# Altium footprint library PCB_Switch.PcbLib: 30 footprints (part 2 of 2)
Each footprint in its own frame and in the unit in brackets; x right, y up, seen from the top. Pads: shape width x height; smd on the part's side, far side on the other; paste and mask are expansions set on the pad; w line width, h text height; cw(c..) or ccw(c..) is an arc to the next point about the centre after c.
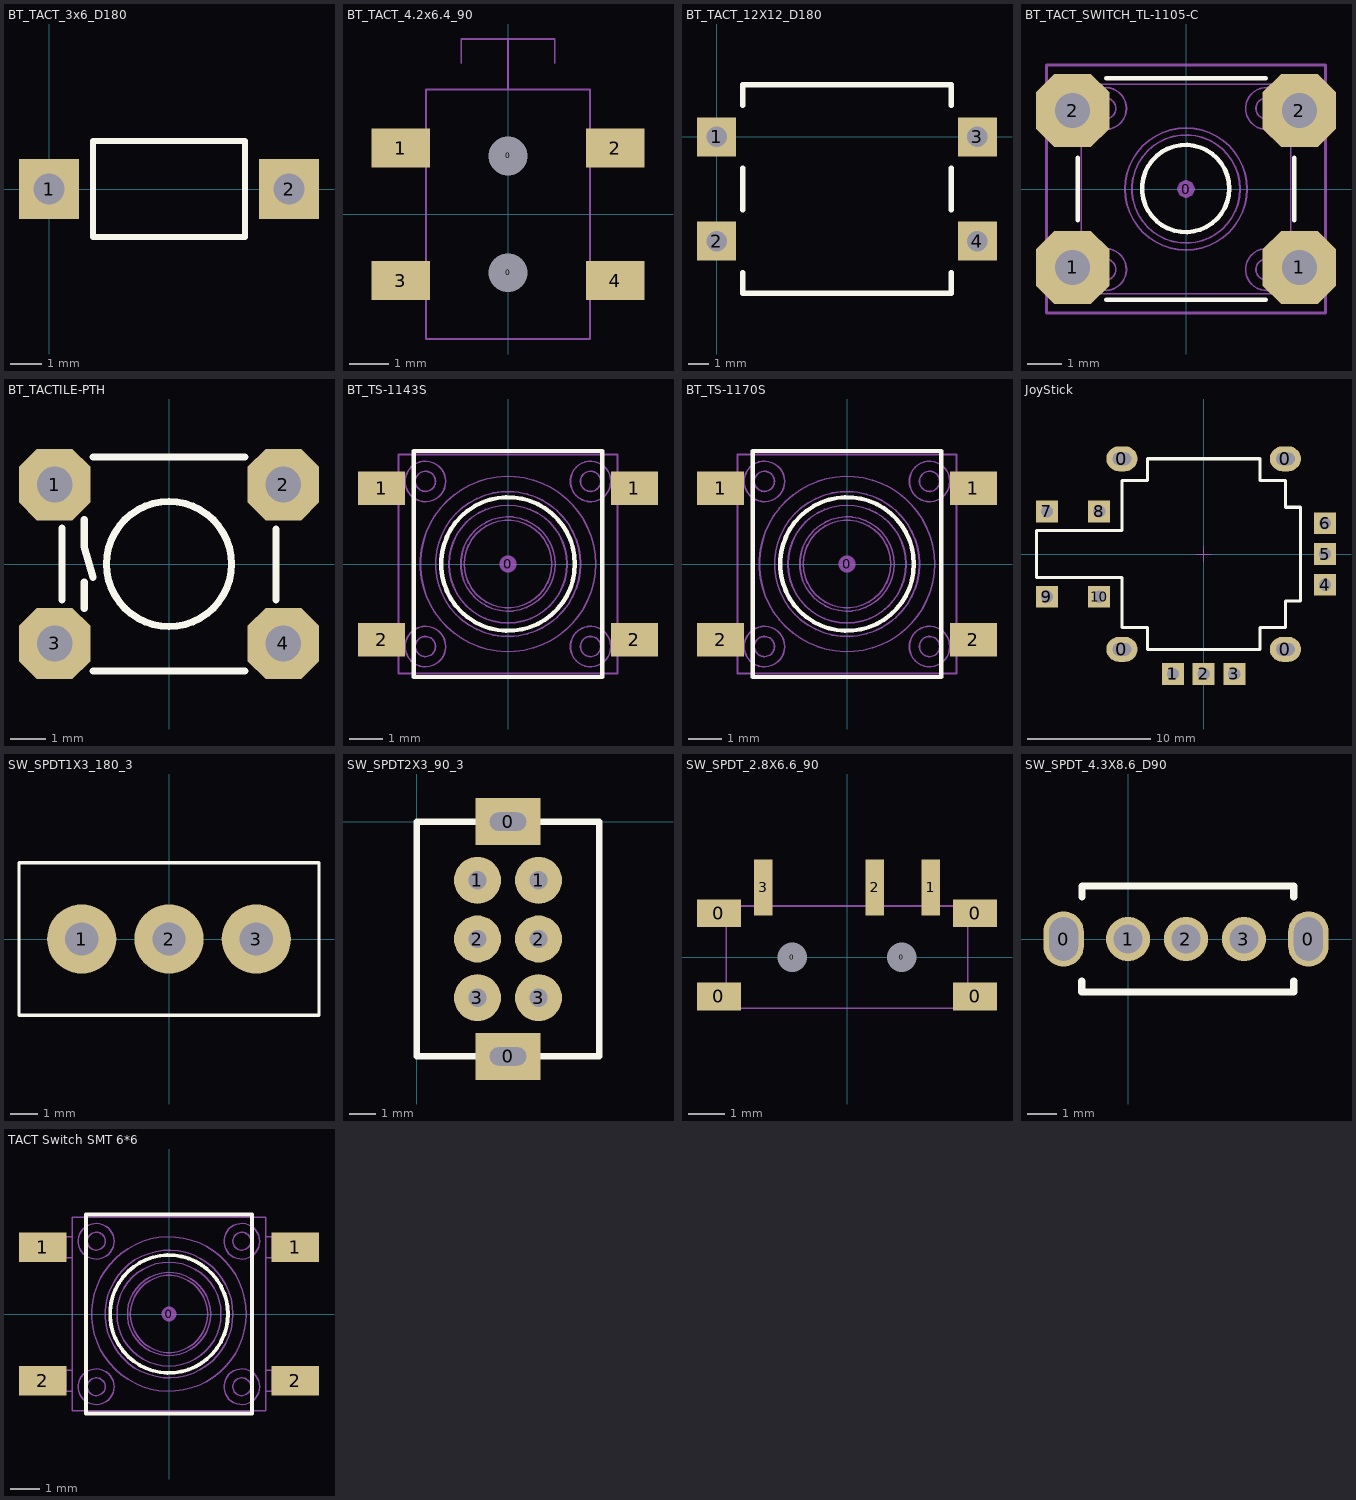
[diagram p1: the footprints below, top view; thin cyan lines are the x and y axes]

## BT_TACT_3x6_D180 [mm]
pads (2):
  rect 1.905x1.905 hole 1: 1(0,0) 2(7.62,0)
Top Overlay:
  lines w0.2: 1.397,-1.524 6.223,-1.524 6.223,1.524 1.397,1.524 1.397,-1.524
3D body: height 5.13, standoff 0.13, extent 0.21,-1.75 7.41,1.75

## BT_TACT_4.2x6.4_90 [mm]
pads (6):
  round 0.254 hole 1: 0(0,-1.5) 0(0,1.5)
  rect 1.5x1 smd: 1(-2.75,1.7) 2(2.75,1.7) 3(-2.75,-1.7) 4(2.75,-1.7)
Mechanical 13:
  lines w0.051: -1.2,3.88 -1.2,4.5 1.2,4.5 1.2,3.88 ; 0,3.2 0,4.5 ; -2.1,-3.2 -2.1,3.2 2.1,3.2 2.1,-3.2 -2.1,-3.2
3D body: height 2.12, standoff -0.48, extent -3.25,-2.977 3.25,5.273

## BT_TACT_12X12_D180 [mm]
height 5
pads (4):
  rect 1.905x1.905 hole 1: 1(0,0) 2(0,-5.08) 3(12.7,0) 4(12.7,-5.08)
Top Overlay:
  lines w0.254: 1.27,-6.604 1.27,-7.62 11.43,-7.62 11.43,-6.604 ; 1.27,-3.556 1.27,-1.524 ; 1.27,1.524 1.27,2.54 11.43,2.54 11.43,1.524 ; 11.43,-3.556 11.43,-1.524
3D body: height 7.43, standoff -3.37, extent -0.127,-8.54 12.873,3.46

## BT_TACT_SWITCH_TL-1105-C [mm] "E-Switch TL1105 series tact switch 8.0mm stem height"
height 8
pads (5):
  round 0.508 on Mech14: 0(0,0)
  oct 2.1x2.1 hole 1: 1(-3.25,-2.25) 1(3.25,-2.25) 2(-3.25,2.25) 2(3.25,2.25)
Top Overlay:
  circle w0.127: c-0.011,0.014 r1.25
  lines w0.127: -3.1,-0.9 -3.1,0.9 ; -2.286,-3.175 2.286,-3.175 ; -2.286,3.175 2.286,3.175 ; 3.1,-0.9 3.1,0.9
Mechanical 13:
  circle w0.05: c0,0 r1.55
  circle w0.05: c0,0 r1.75
  circle w0.05: c-2.31,2.309 r0.3
  circle w0.05: c2.307,2.309 r0.3
  circle w0.05: c-2.31,-2.308 r0.3
  circle w0.05: c2.307,-2.308 r0.3
  circle w0.05: c2.309,2.309 r0.6
  circle w0.05: c-2.309,2.309 r0.6
  circle w0.05: c2.309,-2.309 r0.6
  circle w0.05: c-2.309,-2.309 r0.6
  lines w0.05: -3.886,-2.65 -3.886,-1.85 ; -3.886,1.85 -3.886,2.65 ; -3.3,-2.65 -3.3,-1.85 ; -3.3,1.85 -3.3,2.65 ; -3.15,-2.65 -3.15,-1.85 ; -3.15,1.85 -3.15,2.65 ; -3,-2.65 -3.95,-2.65 -3.95,-1.85 -3,-1.85 ; -3,1.85 -3.95,1.85 -3.95,2.65 -3,2.65 ; -2.561,-2.853 ccw(c-2.309,-2.309) -2.538,-2.863 ; -2.561,1.764 ccw(c-2.309,2.309) -2.538,1.754 ; 2.056,-2.853 ccw(c2.309,-2.309) 2.079,-2.863 ; 2.056,1.764 ccw(c2.309,2.309) 2.079,1.754 ; 3,-2.65 3.95,-2.65 3.95,-1.85 3,-1.85 ; 3,1.85 3.95,1.85 3.95,2.65 3,2.65 ; 3.15,-2.65 3.15,-1.85 ; 3.15,1.85 3.15,2.65 ; 3.3,-2.65 3.3,-1.85 ; 3.3,1.85 3.3,2.65 ; 3.886,-2.65 3.886,-1.85 ; 3.886,1.85 3.886,2.65 ; -3,-3 -3,3 3,3 3,-3 -3,-3
Mechanical 14:
  lines w0.076: -4,-3.556 -4,3.556 4,3.556 4,-3.556 -4,-3.556
3D body: height 8, standoff -3.5, extent -3.95,-3 3.95,3

## BT_TACTILE-PTH [mil] "ֱ"
pads (4):
  oct 80x80 hole 40: 1(-128,89) 2(128,89) 3(-128,-89) 4(128,-89)
Top Overlay:
  circle w8: c0,0 r70
  lines w8: -120,-40 -120,40.47 ; -95,-50 -95,-20 ; -95,50 -95,20 -85,-15 ; -85,-120 85,-120 ; -85,120 85,120 ; 120,-40 120,39.29
3D body: height 212.6, standoff -118.11, extent -161.65,-118.11 161.64,118.11

## BT_TS-1143S [mm] "6.5x6.5mm SMD tact switch 4.3mm stem"
height 4.3
pads (5):
  round 0.508 on Mech14: 0(0,0)
  rect 1.4x1 smd: 1(-3.75,2.25) 1(3.75,2.25) 2(-3.75,-2.25) 2(3.75,-2.25)
Top Overlay:
  circle w0.127: c0,0 r1.984
  lines w0.127: -2.794,-3.35 2.794,-3.35 2.794,3.35 -2.794,3.35 -2.794,-3.35
Mechanical 13:
  circle w0.05: c-2.45,-2.45 r0.6
  circle w0.05: c2.45,-2.45 r0.6
  circle w0.05: c2.45,2.45 r0.6
  circle w0.05: c-2.45,2.45 r0.6
  circle w0.05: c-2.45,-2.448 r0.3
  circle w0.05: c2.45,-2.448 r0.3
  circle w0.05: c-2.45,2.452 r0.3
  circle w0.05: c2.45,2.452 r0.3
  circle w0.05: c0,0 r2.6
  circle w0.05: c0,0 r2.15
  circle w0.05: c0,-0.002 r1.75
  circle w0.05: c0,0 r1.3
  circle w0.05: c0,0 r1.4
  lines w0.05: -3.591,-2.6 -3.591,-1.9 ; -3.591,1.9 -3.591,2.6 ; -3.571,-2.6 -3.571,-1.9 ; -3.571,1.9 -3.571,2.6 ; -3.468,-2.6 -3.468,-1.9 ; -3.468,1.9 -3.468,2.6 ; -3.253,-2.6 -3.253,-1.9 ; -3.253,1.9 -3.253,2.6 ; -3.25,-2.6 -4,-2.6 -4,-1.9 -3.25,-1.9 ; -3.25,1.9 -4,1.9 -4,2.6 -3.25,2.6 ; 3.25,-2.6 4,-2.6 4,-1.9 3.25,-1.9 ; 3.25,1.9 4,1.9 4,2.6 3.25,2.6 ; 3.253,-2.6 3.253,-1.9 ; 3.253,1.9 3.253,2.6 ; 3.468,-2.6 3.468,-1.9 ; 3.468,1.9 3.468,2.6 ; 3.571,-2.6 3.571,-1.9 ; 3.571,1.9 3.571,2.6 ; 3.591,-2.6 3.591,-1.9 ; 3.591,1.9 3.591,2.6 ; -3.25,-3.25 -3.25,3.25 3.25,3.25 3.25,-3.25 -3.25,-3.25
3D body: height 4.3, standoff 0, extent -4,-3.25 4,3.25

## BT_TS-1170S [mm] "6.5x6.5mm SMD tact switch 7.0mm stem"
height 7
pads (5):
  round 0.508 on Mech14: 0(0,0)
  rect 1.4x1 smd: 1(-3.75,2.25) 1(3.75,2.25) 2(-3.75,-2.25) 2(3.75,-2.25)
Top Overlay:
  circle w0.127: c0,0 r1.984
  lines w0.127: -2.794,-3.35 -2.794,3.35 2.794,3.35 2.794,-3.35 -2.794,-3.35
Mechanical 13:
  circle w0.05: c-2.45,-2.45 r0.6
  circle w0.05: c2.45,-2.45 r0.6
  circle w0.05: c2.45,2.45 r0.6
  circle w0.05: c-2.45,2.45 r0.6
  circle w0.05: c-2.45,-2.448 r0.3
  circle w0.05: c2.45,-2.448 r0.3
  circle w0.05: c-2.45,2.452 r0.3
  circle w0.05: c2.45,2.452 r0.3
  circle w0.05: c0,0 r2.6
  circle w0.05: c0,0 r2.15
  circle w0.05: c0,-0.002 r1.75
  circle w0.05: c0,0 r1.3
  circle w0.05: c0,0 r1.4
  lines w0.05: -3.591,-2.6 -3.591,-1.9 ; -3.591,1.9 -3.591,2.6 ; -3.571,-2.6 -3.571,-1.9 ; -3.571,1.9 -3.571,2.6 ; -3.468,-2.6 -3.468,-1.9 ; -3.468,1.9 -3.468,2.6 ; -3.253,-2.6 -3.253,-1.9 ; -3.253,1.9 -3.253,2.6 ; -3.25,-2.6 -4,-2.6 -4,-1.9 -3.25,-1.9 ; -3.25,1.9 -4,1.9 -4,2.6 -3.25,2.6 ; 3.25,-2.6 4,-2.6 4,-1.9 3.25,-1.9 ; 3.25,1.9 4,1.9 4,2.6 3.25,2.6 ; 3.253,-2.6 3.253,-1.9 ; 3.253,1.9 3.253,2.6 ; 3.468,-2.6 3.468,-1.9 ; 3.468,1.9 3.468,2.6 ; 3.571,-2.6 3.571,-1.9 ; 3.571,1.9 3.571,2.6 ; 3.591,-2.6 3.591,-1.9 ; 3.591,1.9 3.591,2.6 ; -3.25,-3.25 -3.25,3.25 3.25,3.25 3.25,-3.25 -3.25,-3.25
3D body: height 7, standoff 0, extent -4,-3.25 4,3.25

## JoyStick [mil]
pads (14):
  oval 100x80 hole 40 slot 60 at 0 deg: 0(-261.81,-305.12) 0(-261.81,305.12) 0(261.81,-305.12) 0(261.81,305.12)
  rect 70x70 hole 39.37: 1(-98.43,-383.86) 2(0,-383.86) 3(98.43,-383.86) 4(388.86,-98.43) 5(388.86,0) 6(388.86,98.43) 7(-501.97,136.57) 8(-334.8,136.57) 9(-501.97,-136.57) 10(-334.8,-136.57)
Top Overlay:
  lines w10: -535,-75 -261.81,-75 -261.81,-235 -180,-235 -180,-305.12 180,-305.12 180,-235 261.81,-235 261.81,-150 310,-150 310,150 261.81,150 261.81,235 180,235 180,305.12 -180,305.12 -180,235 -261.81,235 -261.81,75 -535,75 -535,-75
Mechanical 13:
  lines w2: -25,0 0,0 ; 0,-25 0,0 ; 0,25 0,0 ; 25,0 0,0
3D body: height 1126.3, standoff -118.11, extent -592.19,-517.56 518.45,517.79

## SW_SPDT1X3_180_3 [mil] "TE Connectivity SLS121PC04 SPDT slider"
height 396
pads (3):
  round 100 hole 48: 1(-126,0) 2(0,0) 3(126,0)
Top Overlay:
  lines w5: -216.54,-110.24 -216.54,110.24 216.54,110.24 216.54,-110.24 -216.54,-110.24
3D body: height 394, standoff -170, extent -216.49,-109.99 216.51,110.01

## SW_SPDT1X3_180_xx [mm] "TE Connectivity SLS121PC04 SPDT slider"
height 10.058
3D body: height 8, standoff -3.41, extent -4.3,-1.896 4.3,2.404

## SW_SPDT2X3_90_3 [mm]
pads (8):
  rect 2.5x1.8 hole 0.7 slot 1.4 at 0 deg: 0(3.5,-9) 0(3.5,0)
  round 1.8 hole 0.7: 1(2.33,-2.25) 1(4.67,-2.25) 2(2.33,-4.5) 2(4.67,-4.5) 3(2.33,-6.75) 3(4.67,-6.75)
Top Overlay:
  lines w0.254: 0,-9 7,-9 7,0 0,0 0,-9
3D body: height 4.42, standoff -3.98, extent -3.631,-9.71 6.569,0.79

## SW_SPDT_2.8X6.6_90 [mil]
pads (9):
  rect 47.24x30 smd: 0(-137.8,-42.24) 0(-137.8,47.24) 0(137.8,-42.24) 0(137.8,47.24)
  round 10 hole 31.5: 0(-59.06,0) 0(59.06,0)
  rect 20x60 smd: 1(90,75) 2(30,75) 3(-90,75)
Mechanical 13:
  lines w2: -130,-55 -130,55 130,55 130,-55 -130,-55

## SW_SPDT_4.3X8.6_D90 [mil]
pads (5):
  oval 55x75 hole 39.37 slot 59.06 at 90 deg: 0(-87.68,0) 0(245.16,0)
  round 60 hole 39.37: 1(0,0) 2(78.74,0) 3(157.48,0)
Top Overlay:
  lines w10: -62.83,-57 -62.83,-72 225,-72 225,-57 ; -62.68,57 -62.68,72 225.16,72 225.16,57
3D body: height 190, standoff -105, extent -90.76,-245.62 248.24,84

## TACT Switch SMT 6*6 [mm] "TACT Switch SMT 6*6"
pads (5):
  round 0.508 on Mech14: 0(0,0)
  rect 1.6x1 smd: 1(-4.25,2.25) 1(4.25,2.25) 2(-4.25,-2.25) 2(4.25,-2.25)
Top Overlay:
  circle w0.127: c0,0 r1.984
  lines w0.127: -2.794,-3.35 -2.794,3.35 2.794,3.35 2.794,-3.35 -2.794,-3.35
Mechanical 13:
  circle w0.05: c0,0 r1.4
  circle w0.05: c0,0 r1.3
  circle w0.05: c0,-0.002 r1.75
  circle w0.05: c0,0 r2.15
  circle w0.05: c0,0 r2.6
  circle w0.05: c2.45,2.452 r0.3
  circle w0.05: c-2.45,2.452 r0.3
  circle w0.05: c2.45,-2.448 r0.3
  circle w0.05: c-2.45,-2.448 r0.3
  circle w0.05: c-2.45,2.45 r0.6
  circle w0.05: c2.45,2.45 r0.6
  circle w0.05: c2.45,-2.45 r0.6
  circle w0.05: c-2.45,-2.45 r0.6
  lines w0.05: -3.591,-2.6 -3.591,-1.9 ; -3.591,1.9 -3.591,2.6 ; -3.571,-2.6 -3.571,-1.9 ; -3.571,1.9 -3.571,2.6 ; -3.468,-2.6 -3.468,-1.9 ; -3.468,1.9 -3.468,2.6 ; -3.253,-2.6 -3.253,-1.9 ; -3.253,1.9 -3.253,2.6 ; -3.25,-2.6 -4,-2.6 -4,-1.9 -3.25,-1.9 ; -3.25,1.9 -4,1.9 -4,2.6 -3.25,2.6 ; 3.25,-2.6 4,-2.6 4,-1.9 3.25,-1.9 ; 3.25,1.9 4,1.9 4,2.6 3.25,2.6 ; 3.253,-2.6 3.253,-1.9 ; 3.253,1.9 3.253,2.6 ; 3.468,-2.6 3.468,-1.9 ; 3.468,1.9 3.468,2.6 ; 3.571,-2.6 3.571,-1.9 ; 3.571,1.9 3.571,2.6 ; 3.591,-2.6 3.591,-1.9 ; 3.591,1.9 3.591,2.6 ; -3.25,-3.25 3.25,-3.25 3.25,3.25 -3.25,3.25 -3.25,-3.25
3D body: height 5.07, standoff 0.1, extent -5,-3 5,3